# EAGLE library part TE4/7 (library busbar)
BUS BAR 7 connections, grid 4 TE
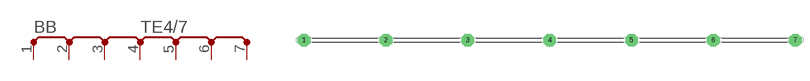
[diagram p4: symbol with the pads of TE4/7; footprint TE4/7]

Designator prefix BB

## TE4/7  [TE4/7]
1  P  pas
2  P  pas
3  P  pas
4  P  pas
5  P  pas
6  P  pas
7  P  pas

## Footprint TE4/7 (pad centres in mm)
BUS BAR 7 connections, grid 4 TE
drill 1.6 pad 3.15 octagon: 1 -60.96,0; 2 -40.64,0; 3 -20.32,0; 4 0,0; 5 20.32,0; 6 40.64,0; 7 60.96,0